# Altium schematic symbol library SCH_RF.SchLib: 4 symbols
Pins are listed as number, name and electrical type; pins without a type are passive.

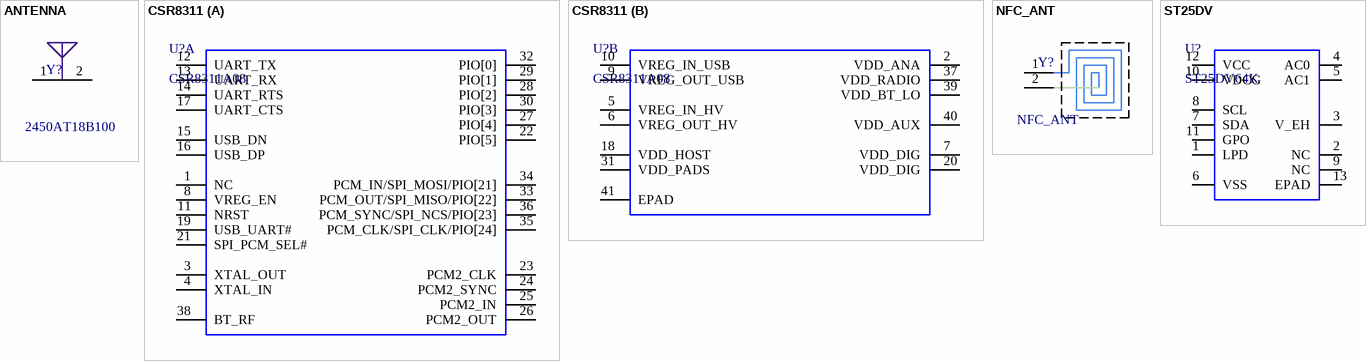
[diagram p0: symbols ANTENNA to ST25DV]

## ANTENNA
designator Y?, comment 2450AT18B100
footprint ANT_2.4G_3.2x1.6
footprint ANT_2.4G_9.5x2.0
footprint ANT_2.4G_5.1X2.0 (Footprint not found)
pins: 1 FP, 2 NC

## CSR8311
designator U?, comment CSR8311A08
Bluetooth v4.1 single-chip radio and baseband IC for automotive applications.
footprint QFN-40-P0.5 (PQFN, 40-Leads, Body 5.98x5.98mm, Pitch 0.50mm, Thermal Pad 4.62x4.62mm, IPC Medium Density)
part A pins: 1 NC, 3 XTAL_OUT, 4 XTAL_IN, 8 VREG_EN, 11 NRST, 12 UART_TX, 13 UART_RX, 14 UART_RTS, 15 USB_DN, 16 USB_DP, 17 UART_CTS, 19 USB_UART#, 21 SPI_PCM_SEL#, 22 PIO[5], 23 PCM2_CLK, 24 PCM2_SYNC, 25 PCM2_IN, 26 PCM2_OUT, 27 PIO[4], 28 PIO[2], 29 PIO[1], 30 PIO[3], 32 PIO[0], 33 PCM_OUT/SPI_MISO/PIO[22], 34 PCM_IN/SPI_MOSI/PIO[21], 35 PCM_CLK/SPI_CLK/PIO[24], 36 PCM_SYNC/SPI_NCS/PIO[23], 38 BT_RF
part B pins: 2 VDD_ANA, 5 VREG_IN_HV, 6 VREG_OUT_HV, 7 VDD_DIG, 9 VREG_OUT_USB, 10 VREG_IN_USB, 18 VDD_HOST, 20 VDD_DIG, 31 VDD_PADS, 37 VDD_RADIO, 39 VDD_BT_LO, 40 VDD_AUX, 41 EPAD

## NFC_ANT
designator Y?
pins: 1 FP, 2 NC

## ST25DV
designator U?, comment ST25DV64K
Dynamic NFC/RFID tag NFC Forum type V with I2C interface, fast transfer mode and energy harvesting
footprint SON-12-EPAD-P0.5-3X3 (SON, 12-Leads, Body 3.03x3.03mm, Pitch 0.50mm, Thermal Pad 2.55x1.40mm, IPC High Density)
pins: 1 LPD, 2 NC, 3 V_EH, 4 AC0, 5 AC1, 6 VSS, 7 SDA, 8 SCL, 9 NC, 10 VDCG, 11 GPO, 12 VCC, 13 EPAD